# Altium schematic symbol library Zachary_Chow_280520.SchLib: 6 symbols
Pins are listed as number, name and electrical type; pins without a type are passive.

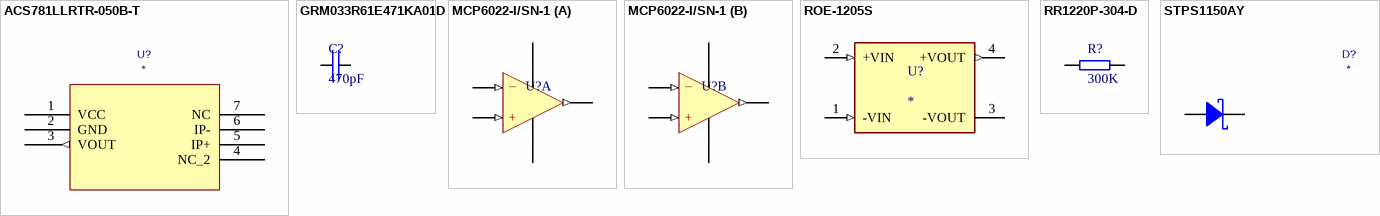
[diagram p0: symbols ACS781LLRTR-050B-T to STPS1150AY]

## ACS781LLRTR-050B-T
designator U?
Manufacturer_Part_Number: ACS780LLRTR-050B-T; Value: ACS780LLRTR-050B; Built_By: EMA_Molly; Vendor: Allegro Microsystems Inc.; SourceLibrary: Allegro_2019-12-17; Copyright: Copyright (C) 2018 Accelerated Designs. All rights reserved; Supplier 1: Newark; Supplier Part Number 1: 99Y0098
footprint LR-7_ALM
pins: 1 VCC (power), 2 GND (power), 3 VOUT (out), 4 NC_2, 5 IP+, 6 IP-, 7 NC

## GRM033R61E471KA01D
designator C?, comment 470pF
SMD Capacitor X5R_EIA_ with Capacitance: 470pF Tol. 10%. Rated Voltage: 25Vdc; MF: Murata; MP: GRM033R61E471KA01D; Digi-Key_Part_Number: 490-17030-1-ND; SnapEDA_Link: https://www.snapeda.com/parts/GRM033R61E471KA01D/Murata/view-part/1804696/?ref=snap; Package: 0603 Taiyo Yuden; Value: *; Digi-Key_Purchase_URL: https://www.digikey.com/product-detail/en/murata-electronics/GRM033R61E471KA01D/490-17030-1-ND/7602029?utm_source=snapeda&utm_medium=aggregator&utm_campaign=symbol; Supplier 1: Digi-Key; Supplier Part Number 1: 490-17030-1-ND
footprint 0603
pins: 1, 2

## MCP6022-I/SN-1
designator U?
General Purpose Amplifier 2 Circuit Rail-to-Rail 8-SOIC; Supplier 1: Digi-Key; Supplier Part Number 1: MCP6022-I/SN-ND
footprint 8-SOIC
part A pins: 1 (out), 2 (in), 3 (in), 4 (power), 8
part B pins: 4 (power), 5 (in), 6 (in), 7 (out), 8
part A text: _; +
part B text: _; +

## ROE-1205S
designator U?
1W DC/DC-Converter 'ECONOLINE' SIP4 1kV unreg; MP: ROE-1205S; MF: Recom Power; Availability: Unavailable; Package: SIP-4 Recom Power; Value: *; SnapEDA_Link: https://www.snapeda.com/parts/ROE-1205S/Recom%20Power/view-part/3121356/?ref=snap; Price: None; Supplier 1: Digi-Key; Supplier Part Number 1: ROE-1205S-ND
footprint CONV_ROE-1205S
pins: 1 -VIN (in), 2 +VIN (in), 3 -VOUT, 4 +VOUT (out)

## RR1220P-304-D
designator R?, comment 300K
300 kOhms ±0.5% 0.1W, 1/10W Chip Resistor 0805 (2012 Metric) Thin Film; Supplier 1: Digi-Key; Supplier Part Number 1: RR12P300KDCT-ND
footprint R0805
pins: 1, 2

## STPS1150AY
designator D?
Value: STPS1150AY; C: Copyright (C) 2015 Accelerated Designs. All rights reserved; Vendor: STMicroelectronics; Built_By: EMA_UL_Team; Manufacturer_Part_Number: STPS1150AY; Supplier 1: Digi-Key; Supplier Part Number 1: 497-12280-1-ND
footprint SMA
pins: 1, 2